# Altium schematic symbol library OWMR.SchLib: 9 symbols
Pins are listed as number, name and electrical type; pins without a type are passive.

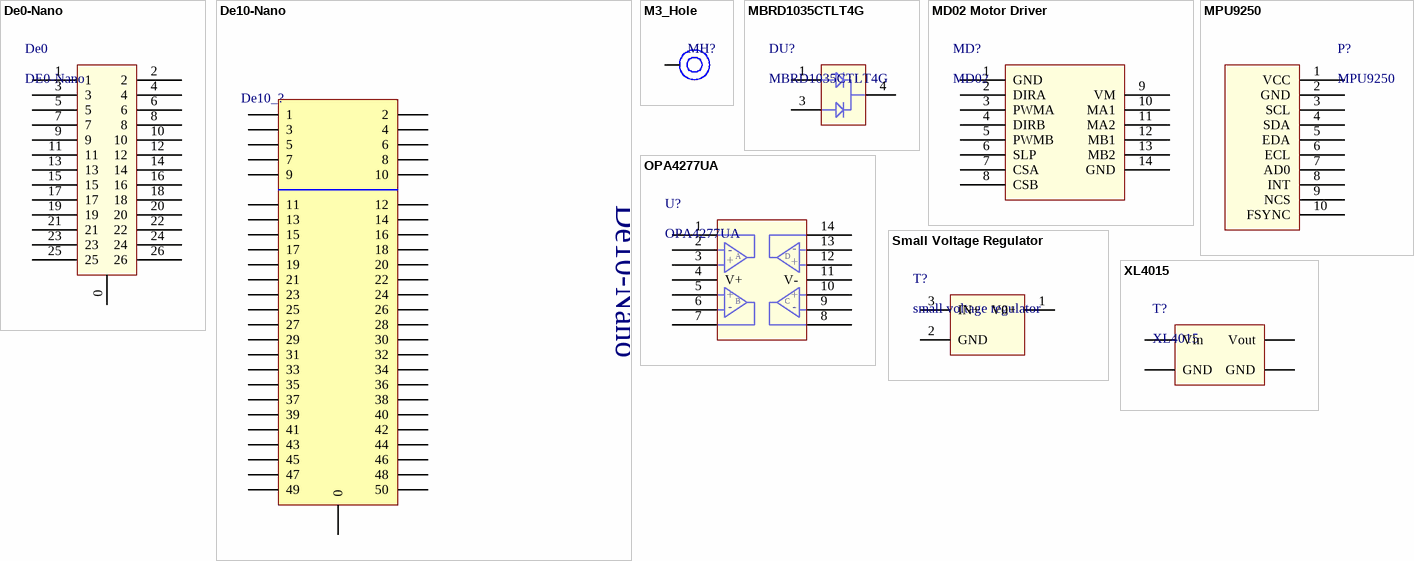
[diagram p0: symbols De0-Nano to XL4015]

## De0-Nano
designator De0, comment DE0-Nano
footprint DE0-Nano
pins: 0 "Screw Hole", 1, 2, 3, 4, 5, 6, 7, 8, 9, 10, 11, 12, 13, 14, 15, 16, 17, 18, 19, 20, 21, 22, 23, 24, 25, 26

## De10-Nano
designator De10_?
De10-Nano
footprint De10-Nano
pins: 0, 1, 2, 3, 4, 5, 6, 7, 8, 9, 10, 11, 12, 13, 14, 15, 16, 17, 18, 19, 20, 21, 22, 23, 24, 25, 26, 27, 28, 29, 30, 31, 32, 33, 34, 35, 36, 37, 38, 39, 40, 41, 42, 43, 44, 45, 46, 47, 48, 49, 50

## M3_Hole
designator MH?, comment M3 Hole  (value not drawn)
footprint M3 Hole
pins: 1

## MBRD1035CTLT4G
designator DU?
35V 470mV@5A 5A TO-252-2(DPAK) Schottky Barrier Diodes (SBD) ROHS; buy_link: https://www.ruten.com.tw/item/show?21744290003226; datasheet: https://datasheet.ciiva.com/905/mbrd1035ctl-d-905952.pdf?src-supplier=Digi-Key
footprint MBRD1035CTLT4G (35V 5A 2Channel Diode IC)
pins: 1, 3, 4

## MD02 Motor Driver
designator MD?, comment MD02
MD02 17A 2 cheel motor driver; buy_link: https://www.ruten.com.tw/item/show?21811773783671
footprint MOTOR_DRIVER (17A 雙路 大功率馬達驅動模組)
pins: 1 GND, 2 DIRA, 3 PWMA, 4 DIRB, 5 PWMB, 6 SLP, 7 CSA, 8 CSB, 9 VM, 10 MA1, 11 MA2, 12 MB1, 13 MB2, 14 GND

## MPU9250
designator P?
3 axis gyro, acceleration, magmetic
footprint MPU9250
pins: 1 VCC, 2 GND, 3 SCL, 4 SDA, 5 EDA, 6 ECL, 7 AD0, 8 INT, 9 NCS, 10 FSYNC

## OPA4277UA
designator U?
Small signal amplifier; buy_link: https://www.ruten.com.tw/item/show?22015419000992; datasheet: https://datasheet.ciiva.com/27050/905643-27050822.pdf?src-supplier=Jameco
footprint OPA4277UA (SOIC, 14-Leads, Body 8.65x3.90mm, Pitch 1.27mm, IPC Medium Density)
pins: 1 Out A, 2 -In A, 3 +In A, 4 V+, 5 +In B, 6 -In B, 7 Out B, 8 Out C, 9 -In C, 10 +in C, 11 V-, 12 +In D, 13 -In D, 14 Out D
text: －; A; D; +; B; C

## Small Voltage Regulator
designator T?, comment small voltage regulator
Supper Smaill Non-isolated Voltage Regulator Module; BuyLink: https://www.ruten.com.tw/item/show?21817939184609
footprint Samll Power Supply (5v to 3P3 Power Supply)
pins: 1 V0+, 2 GND, 3 IN+

## XL4015
designator T?
5A DC-DC Non-isolated Voltage Regulator Module
footprint XL4015 (5A DC-DC Non-isolated voltage regulator module)
pins: 1 Vin, 2 GND, 3 Vout, 4 GND